# Altium schematic symbol library connectors.SchLib: 32 symbols
Pins are listed as number, name and electrical type; pins without a type are passive.

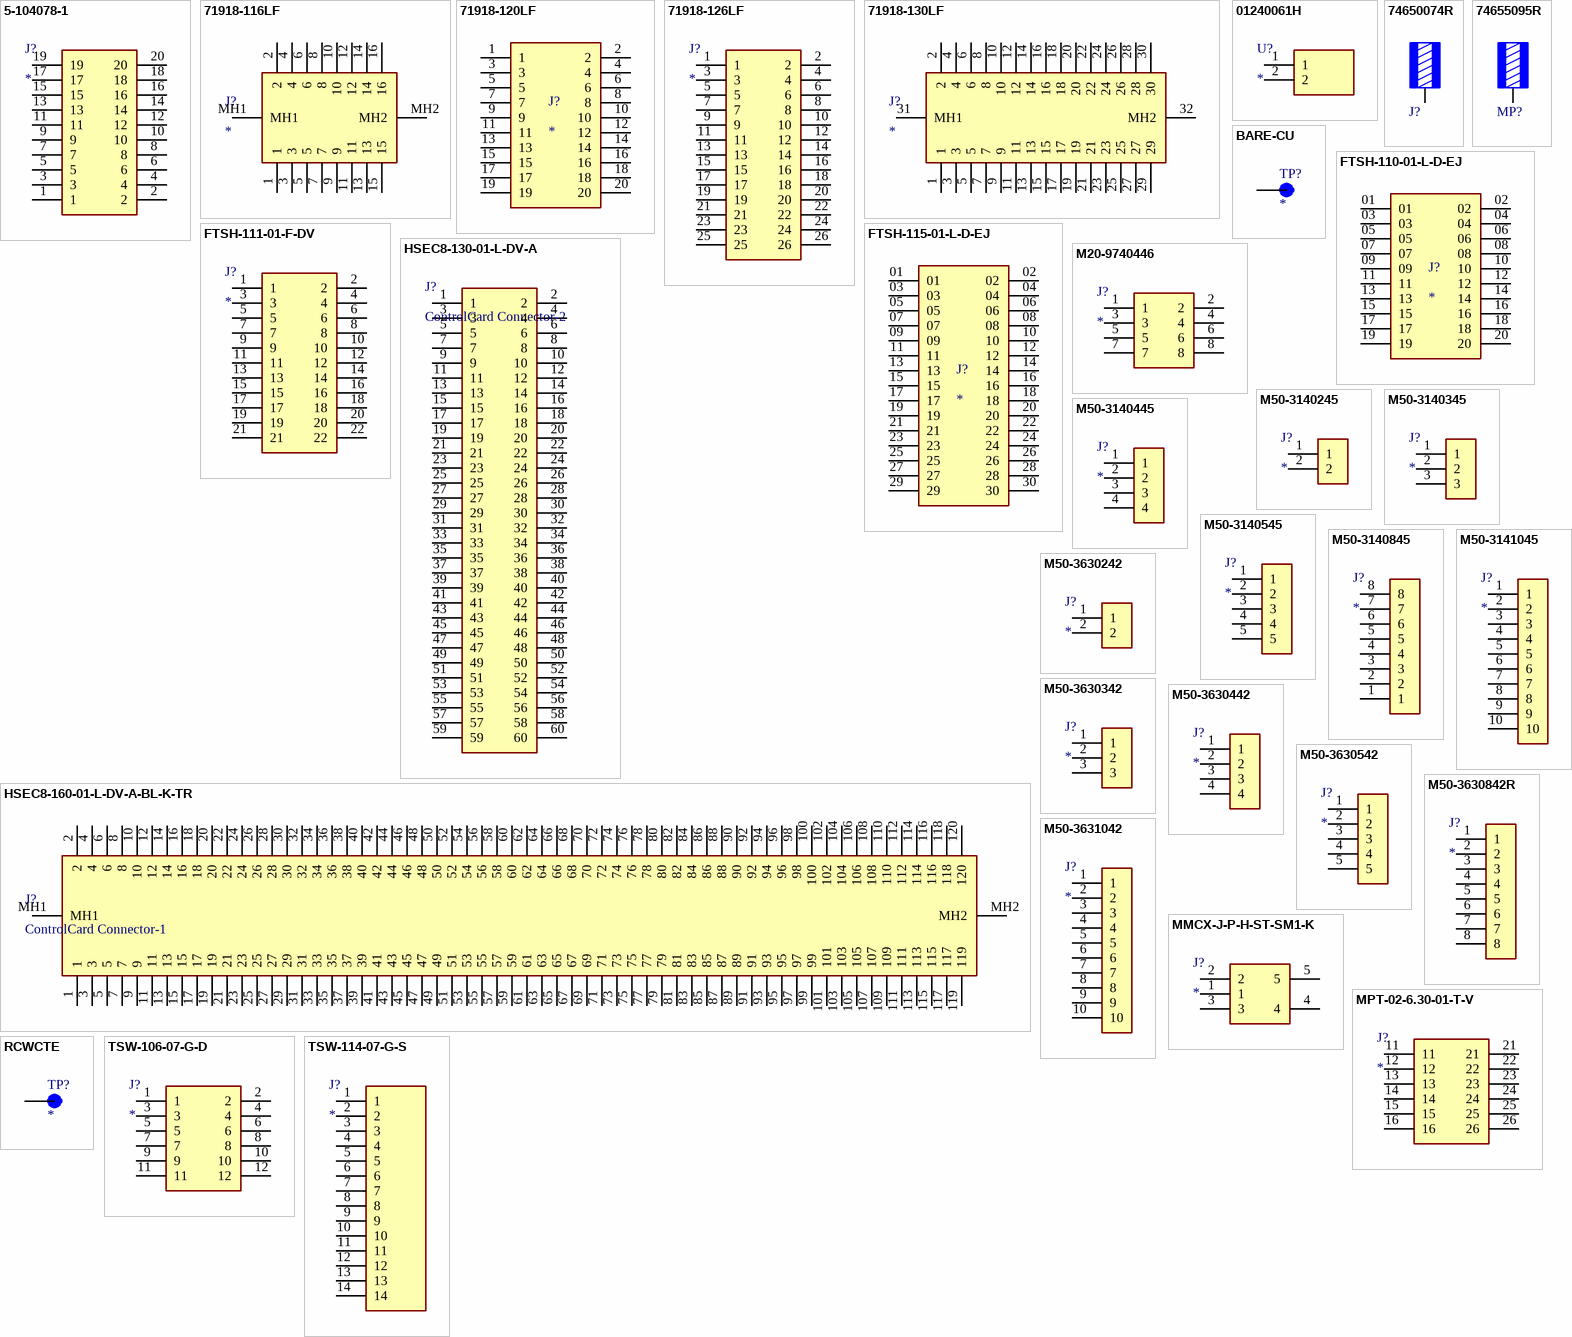
[diagram p0: symbols 5-104078-1 to TSW-114-07-G-S]

## 5-104078-1
designator J?
2x10 RECT 0.05 FOR JTAG-20; Manufacturer_Name: TE Connectivity; Manufacturer_Part_Number: 5-104078-1; Datasheet Link: https://www.te.com/commerce/DocumentDelivery/DDEControllerhttps://www.te.com/commerce/DocumentDelivery/DDEController?Action=showdoc&DocId=Customer+Drawing%7F104078%7FW%7Fpdf%7FEnglish%7FENG_CD_104078_W.pdf%7F5-104078-1?Action=showdoc&DocId=Customer+Drawin; Height: 8.97mm; Mouser Part Number: 571-5-104078-1; Mouser Price/Stock: https://www.mouser.co.uk/ProductDetail/TE-Connectivity/5-104078-1?qs=5TU6wCHKgpbr5ruvfBZGyA%3D%3D; Arrow Part Number: 5-104078-1; Arrow Price/Stock: https://www.arrow.com/en/products/5-104078-1/te-connectivity?utm_currency=USD&region=nac
footprint 51040781
pins: 1, 2, 3, 4, 5, 6, 7, 8, 9, 10, 11, 12, 13, 14, 15, 16, 17, 18, 19, 20

## 71918-116LF
designator J?
CONN HEADER VERT 16POS 2.54MM LATCHLOCK; Manufacturer_Name: Amphenol Communications Solutions; Manufacturer_Part_Number: 71918-116LF; Datasheet Link: https://cdn.amphenol-cs.com/media/wysiwyg/files/drawing/71918.pdf; Height: 17.7mm; Arrow Part Number: 71918-116LF; Arrow Price/Stock: https://www.arrow.com/en/products/71918-116lf/amphenol-fci?utm_currency=USD&region=europe
footprint 71918116LF
pins: 1, 2, 3, 4, 5, 6, 7, 8, 9, 10, 11, 12, 13, 14, 15, 16, MH1, MH2

## 71918-120LF
designator J?
CONN HEADER VERT 20POS 2.54MM LATCHLOCK; MF: Amphenol ICC; MP: 71918-120LF; Package: None; Price: None; Value: *; Availability: Unavailable
footprint AMPHENOL_71918-120LF
pins: 1, 2, 3, 4, 5, 6, 7, 8, 9, 10, 11, 12, 13, 14, 15, 16, 17, 18, 19, 20

## 71918-126LF
designator J?
CONN HEADER VERT 26POS 2.54MM LATCHLOCK; Manufacturer_Name: Amphenol Communications Solutions; Manufacturer_Part_Number: 71918-126LF; Datasheet Link: https://cdn.amphenol-cs.com/media/wysiwyg/files/drawing/71918.pdf; Height: 26.8mm
footprint 71918126LF
pins: 1, 2, 3, 4, 5, 6, 7, 8, 9, 10, 11, 12, 13, 14, 15, 16, 17, 18, 19, 20, 21, 22, 23, 24, 25, 26

## 71918-130LF
designator J?
CONN HEADER VERT 30POS 2.54MM LATCHLOCK; Manufacturer_Name: Amphenol Communications Solutions; Manufacturer_Part_Number: 71918-130LF; Datasheet Link: https://cdn.amphenol-cs.com/media/wysiwyg/files/drawing/71918.pdf; Height: 26.8mm; Arrow Part Number: 71918-130LF; Arrow Price/Stock: https://www.arrow.com/en/products/71918-130lf/amphenol-fci?utm_currency=USD&region=nac
footprint 71918130LF
pins: 1, 2, 3, 4, 5, 6, 7, 8, 9, 10, 11, 12, 13, 14, 15, 16, 17, 18, 19, 20, 21, 22, 23, 24, 25, 26, 27, 28, 29, 30, 31 MH1, 32 MH2

## 01240061H
designator U?
FUSE CLIP HOLDER THT 3AG/3AB 40A; Manufacturer_Name: LITTELFUSE; Manufacturer_Part_Number: 01240061H; Datasheet Link: https://www.littelfuse.com/media?resourcetype=datasheets&itemid=281b065a-d81e-4e26-9035-84e73d4bb028&filename=littelfuse-fuse-clip-124-datasheet.pdf; Height: 10.67mm; Mouser Part Number: 576-01240061H; Mouser Price/Stock: https://www.mouser.co.uk/ProductDetail/Littelfuse/01240061H?qs=81r%252BiQLm7BSgqEC6g%252BUS9Q%3D%3D; Arrow Part Number: 01240061H; Arrow Price/Stock: https://www.arrow.com/en/products/01240061h/littelfuse?utm_currency=USD&region=europe
footprint 01240061H
pins: 1, 2

## 74650074R
designator J?  (value not drawn)
TERM REDCUBE M4 THT; Manufacturer Part Number: 74650074R; Manufacturer: Wurth Elektronik; Match Code: WP-THRBU; Rated Current: 50A; Surface: Tin; Thread Length: 2.5mm; ComponentLink1Description: Website Link; ComponentLink1URL: https://www.we-online.com/redexpert/article/74650074R?ad; ComponentLink2Description: Datasheet Link; ComponentLink2URL: https://www.we-online.com/redexpert/spec/74650074R?ad; Category: REDCUBE THR; Mount: Through Hole Reflow; Operating Temperature Max: 150°C; Operating Temperature Min: -55°C; Packaging: Tape and Reel; Length: 7mm; Width: 7mm; Height: 3mm; Material: Brass; Number of Pins: 4; Thread Size: M4
footprint 74650074 (REDCUBE THR with internal thread, M4x2.5mm, through)
pins: 1

## 74655095R
designator MP?, comment M5 x 3.5mm  (value not drawn)
TERM REDCUBE M5 THT; Manufacturer Part Number: 74655095R; Manufacturer: Wurth Elektronik; Match Code: WP-THRBU; Rated Current: 85A; Surface: Tin; ComponentLink1Description: Website Link; ComponentLink1URL: https://www.we-online.com/redexpert/article/74655095R?ad; ComponentLink2Description: Datasheet Link; ComponentLink2URL: https://www.we-online.com/redexpert/spec/74655095R?ad; Category: REDCUBE THR; Mount: Through Hole Reflow; Operating Temperature Max: 150°C; Operating Temperature Min: -55°C; Packaging: Tape and Reel; Length: 10mm; Width: 10mm; Height: 4mm; Material: Brass; Number of Pins: 8; Thread Length: 3.5mm; Thread Size: M5
footprint 74655095 (REDCUBE THR with internal thread, M5x3.5mm, through)
pins: 1

## BARE-CU
designator TP?
BARE CU TEST POINT; MF: KOA Speer; MP: RCWCTE; Check_prices: https://www.snapeda.com/parts/RCWCTE/KOA+Speer/view-part/?ref=eda; SnapEDA_Link: https://www.snapeda.com/parts/RCWCTE/KOA+Speer/view-part/?ref=snap; Digi-Key_Part_Number: 2019-RCWCTETR-ND; Value: *; Purchase-URL: https://pricing.snapeda.com/search/part/RCWCTE/?ref=eda; Package: None
footprint BARE_CU_OCT_2mm
pins: 1 TP

## FTSH-110-01-L-D-EJ
designator J?
CONN HEADER VERT 20POS 1.27MM LATCHLOCK; MP: FTSH-110-01-L-D-EJ; MF: Samtec; Availability: Unavailable; Value: *; Price: None; Package: None
footprint SAMTEC_FTSH-110-01-L-D-EJ
pins: 01, 02, 03, 04, 05, 06, 07, 08, 09, 10, 11, 12, 13, 14, 15, 16, 17, 18, 19, 20

## FTSH-111-01-F-DV
designator J?
CONN HEADER SMD 2x11POS 1.27MM; Manufacturer_Name: SAMTEC; Manufacturer_Part_Number: FTSH-111-01-F-DV; Datasheet Link: https://suddendocs.samtec.com/prints/ftsh-1xx-xx-xxx-dv-xxx-xxx-x-xx-mkt.pdf?_gl=1*1e7216n*_ga*ODgwNjE2ODg0LjE2NDkxNjE4OTQ.*_ga_3KFNZC07WW*MTY3ODA4Njg4Ny45Ni4xLjE2NzgwODcxMjUuNi4wLjA.; Height: 6.1mm; Mouser Part Number: 200-FTSH11101FDV; Mouser Price/Stock: https://www.mouser.co.uk/ProductDetail/Samtec/FTSH-111-01-F-DV?qs=0lQeLiL1qyZO8bh%2FqcJwUQ%3D%3D; Arrow Part Number: FTSH-111-01-F-DV; Arrow Price/Stock: https://www.arrow.com/en/products/ftsh-111-01-f-dv/samtec?region=nac
footprint FTSH11101FDV
pins: 1, 2, 3, 4, 5, 6, 7, 8, 9, 10, 11, 12, 13, 14, 15, 16, 17, 18, 19, 20, 21, 22

## FTSH-115-01-L-D-EJ
designator J?
CONN HEADER VERT 30POS 1.27MM LATCHLOCK; MF: {'manufacturer': u'Samtec Inc.'}; MP: FTSH-115-01-L-D-EJ; Package: None; Price: None; Value: *; Availability: Unavailable
footprint SAMTEC_FTSH-115-01-L-D-EJ
pins: 01, 02, 03, 04, 05, 06, 07, 08, 09, 10, 11, 12, 13, 14, 15, 16, 17, 18, 19, 20, 21, 22, 23, 24, 25, 26, 27, 28, 29, 30

## HSEC8-130-01-L-DV-A
designator J?, comment ControlCard Connector-2
CONN EDGE DUAL FML 60POS 0.031; Manufacturer_Name: SAMTEC; Manufacturer_Part_Number: HSEC8-130-01-L-DV-A; Datasheet Link: https://suddendocs.samtec.com/prints/hsec8-1xxx-xx-xx-dv-x-xx-x-xx-mkt.pdf?_gl=1*nu2iep*_ga*OTExNDMzNjcuMTcxNzEyNzc4OQ..*_ga_3KFNZC07WW*MTcxNzIyNDUwOS4zLjEuMTcxNzIyNDU5OS40Mi4wLjA.; Height: 8.13mm; Mouser Part Number: 200-HSEC813001LDVA; Mouser Price/Stock: https://www.mouser.co.uk/ProductDetail/Samtec/HSEC8-130-01-L-DV-A?qs=PB6%2FjmICvI3aphKY%252B4QbpQ%3D%3D; Arrow Part Number: HSEC8-130-01-L-DV-A; Arrow Price/Stock: https://www.arrow.com/en/products/hsec8-130-01-l-dv-a/samtec?utm_currency=USD&region=nac
footprint HSEC813001LDVA
pins: 1, 2, 3, 4, 5, 6, 7, 8, 9, 10, 11, 12, 13, 14, 15, 16, 17, 18, 19, 20, 21, 22, 23, 24, 25, 26, 27, 28, 29, 30, 31, 32, 33, 34, 35, 36, 37, 38, 39, 40, 41, 42, 43, 44, 45, 46, 47, 48, 49, 50, 51, 52, 53, 54, 55, 56, 57, 58, 59, 60

## HSEC8-160-01-L-DV-A-BL-K-TR
designator J?, comment ControlCard Connector-1
CONN EDGE DUAL FML 120POS 0.031; Manufacturer_Name: SAMTEC; Manufacturer_Part_Number: HSEC8-160-01-L-DV-A-BL-K-TR; Datasheet Link: https://suddendocs.samtec.com/prints/hsec8-1xxx-xx-xx-dv-x-xx-x-xx-mkt.pdf; Height: 8.13mm; Mouser Part Number: 200-C816001LDVABLKTR; Mouser Price/Stock: https://www.mouser.co.uk/ProductDetail/Samtec/HSEC8-160-01-L-DV-A-BL-K-TR?qs=PB6%2FjmICvI3KOGQIEkyHjQ%3D%3D
footprint HSEC816001LDVABLKTR
pins: 1, 2, 3, 4, 5, 6, 7, 8, 9, 10, 11, 12, 13, 14, 15, 16, 17, 18, 19, 20, 21, 22, 23, 24, 25, 26, 27, 28, 29, 30, 31, 32, 33, 34, 35, 36, 37, 38, 39, 40, 41, 42, 43, 44, 45, 46, 47, 48, 49, 50, 51, 52, 53, 54, 55, 56, 57, 58, 59, 60, 61, 62, 63, 64, 65, 66, 67, 68, 69, 70, 71, 72, 73, 74, 75, 76, 77, 78, 79, 80, 81, 82, 83, 84, 85, 86, 87, 88, 89, 90, 91, 92, 93, 94, 95, 96, 97, 98, 99, 100, 101, 102, 103, 104, 105, 106, 107, 108, 109, 110, 111, 112, 113, 114, 115, 116, 117, 118, 119, 120, MH1, MH2

## M20-9740446
designator J?
CONN HEADER R/A THT 8POS 2.54MM; Manufacturer_Name: Harwin; Manufacturer_Part_Number: M20-9740446; Datasheet Link: https://content.harwin.com/m/e93fbae77e92481e/original/DRG-00453-Technical-Drawing-Datasheet-M20-974-pdf.pdf; Height: 5.08mm; Mouser Part Number: 855-M20-9740446; Mouser Price/Stock: https://www.mouser.co.uk/ProductDetail/Harwin/M20-9740446?qs=ulE8k0yEMYb%2FRXT%252BIaWKSQ%3D%3D
footprint M20-97404XX
pins: 1, 2, 3, 4, 5, 6, 7, 8

## M50-3140245
designator J?
CONN RCPT 2POS 1.27MM SMD; Manufacturer_Name: Harwin; Manufacturer_Part_Number: M50-3140245; Datasheet Link: https://componentsearchengine.com/Datasheets/1/M50-3140245.pdf; Height: 3.6mm; Mouser Part Number: 855-M50-3140245; Mouser Price/Stock: https://www.mouser.co.uk/ProductDetail/Harwin/M50-3140245?qs=%252BdQmOuGyFcEdctCQD%252BcFMQ%3D%3D
footprint M503140245
pins: 1, 2

## M50-3140345
designator J?
CONN RCPT 3POS 1.27MM SMD; Manufacturer_Name: Harwin; Manufacturer_Part_Number: M50-3140345; Datasheet Link: https://cdn.harwin.com/pdfs/M50-314.pdf; Height: 3.55mm; Mouser Part Number: 855-M50-3140345; Mouser Price/Stock: https://www.mouser.co.uk/ProductDetail/Harwin/M50-3140345?qs=%252BdQmOuGyFcGEXufOLF1LLg%3D%3D
footprint M503140345
pins: 1, 2, 3

## M50-3140445
designator J?
CONN RCPT 4POS 1.27MM SMD; Manufacturer_Name: Harwin; Manufacturer_Part_Number: M50-3140445; Datasheet Link: https://cdn.harwin.com/pdfs/M50-314.pdf; Height: 3.85mm; Mouser Part Number: 855-M50-3140445; Mouser Price/Stock: https://www.mouser.co.uk/ProductDetail/Harwin/M50-3140445?qs=%252BdQmOuGyFcEaFwvke74u0A%3D%3D
footprint M503140445
pins: 1, 2, 3, 4

## M50-3140545
designator J?
CONN RCPT 5POS 1.27MM SMD; Manufacturer_Name: Harwin; Manufacturer_Part_Number: M50-3140545; Datasheet Link: https://cdn.harwin.com/pdfs/M50-314.pdf; Height: 3.85mm; Mouser Part Number: 855-M50-3140545; Mouser Price/Stock: https://www.mouser.co.uk/ProductDetail/Harwin/M50-3140545?qs=%252BdQmOuGyFcFuucSHxtzcCQ%3D%3D
footprint M503140545
pins: 1, 2, 3, 4, 5

## M50-3140845
designator J?
CONN RCPT 8POS 1.27MM SMD; Manufacturer_Name: Harwin; Manufacturer_Part_Number: M50-3140845; Datasheet Link: https://cdn.harwin.com/pdfs/M50-314.pdf; Height: 3.85mm; Mouser Part Number: 855-M50-3140845; Mouser Price/Stock: https://www.mouser.co.uk/ProductDetail/Harwin/M50-3140845?qs=%252BdQmOuGyFcHQiIR7iiboCA%3D%3D
footprint M503140845
pins: 1, 2, 3, 4, 5, 6, 7, 8

## M50-3141045
designator J?
CONN RCPT 10POS 1.27MM SMD; Manufacturer_Name: Harwin; Manufacturer_Part_Number: M50-3141045; Datasheet Link: https://cdn.harwin.com/pdfs/M50-314.pdf; Height: 3.85mm; Mouser Part Number: 855-M50-3141045; Mouser Price/Stock: https://www.mouser.co.uk/ProductDetail/Harwin/M50-3141045?qs=%252BdQmOuGyFcGapsL%2FyAUiiQ%3D%3D
footprint M503141045
pins: 1, 2, 3, 4, 5, 6, 7, 8, 9, 10

## M50-3630242
designator J?
CONN HEADER SMD 2POS 1.27MM; Manufacturer_Name: Harwin; Manufacturer_Part_Number: M50-3630242; Datasheet Link: https://cdn.harwin.com/pdfs/M50-363.pdf; Height: 4.95mm; Mouser Part Number: 855-M50-3630242; Mouser Price/Stock: https://www.mouser.co.uk/ProductDetail/Harwin/M50-3630242?qs=%252BdQmOuGyFcGm5KVXDM4yoQ%3D%3D
footprint M503630242
pins: 1, 2

## M50-3630342
designator J?
CONN HEADER SMD 3POS 1.27MM; Manufacturer_Name: Harwin; Manufacturer_Part_Number: M50-3630342; Datasheet Link: https://cdn.harwin.com/pdfs/M50-363.pdf; Mouser Part Number: 855-M50-3630342; Mouser Price/Stock: https://www.mouser.co.uk/ProductDetail/Harwin/M50-3630342?qs=%252BdQmOuGyFcG0d8QKr5S%252BEA%3D%3D
footprint HUSRSP3W42P127_381X210X430P
pins: 1, 2, 3

## M50-3630442
designator J?
CONN HEADER SMD 4POS 1.27MM; Manufacturer_Name: Harwin; Manufacturer_Part_Number: M50-3630442; Datasheet Link: https://cdn.harwin.com/pdfs/M50-363.pdf; Height: 4mm; Mouser Part Number: 855-M50-3630442; Mouser Price/Stock: https://www.mouser.co.uk/ProductDetail/Harwin/M50-3630442?qs=%252BdQmOuGyFcE6k2Z86bbY9Q%3D%3D
footprint M503630442
pins: 1, 2, 3, 4

## M50-3630542
designator J?
CONN HEADER SMD 5POS 1.27MM; Manufacturer_Name: Harwin; Manufacturer_Part_Number: M50-3630542; Datasheet Link: https://www.harwin.com/api/download/?document=https://content.harwin.com/m/6cdc14cba4152813/original/DRG-02647-Technical-Drawing-Datasheet-M50-363-pdf.pdf; Height: 4.95mm; Mouser Part Number: 855-M50-3630542; Mouser Price/Stock: https://www.mouser.co.uk/ProductDetail/Harwin/M50-3630542?qs=%252BdQmOuGyFcGTcknJK14WpQ%3D%3D
footprint M503630542
pins: 1, 2, 3, 4, 5

## M50-3630842R
designator J?
CONN HEADER SMD 8POS 1.27MM; Manufacturer_Name: Harwin; Manufacturer_Part_Number: M50-3630842; Datasheet Link: https://cdn.harwin.com/pdfs/M50-363.pdf; Mouser Part Number: 855-M50-3630842; Mouser Price/Stock: https://www.mouser.co.uk/ProductDetail/Harwin/M50-3630842?qs=%252BdQmOuGyFcFqwDSPVZ2BSw%3D%3D
footprint M503630842R
pins: 1, 2, 3, 4, 5, 6, 7, 8

## M50-3631042
designator J?
CONN HEADER SMD 10POS 1.27MM; Manufacturer_Name: Harwin; Manufacturer_Part_Number: M50-3631042; Datasheet Link: https://cdn.harwin.com/pdfs/M50-363.pdf; Height: 4.7mm; Mouser Part Number: 855-M50-3631042; Mouser Price/Stock: https://www.mouser.co.uk/ProductDetail/Harwin/M50-3631042?qs=%252BdQmOuGyFcGLl60dqjvGKA%3D%3D
footprint M503631042
pins: 1, 2, 3, 4, 5, 6, 7, 8, 9, 10

## MMCX-J-P-H-ST-SM1-K
designator J?
CONN MMCX JACK STR 50 OHM SMD; Manufacturer_Name: SAMTEC; Manufacturer_Part_Number: MMCX-J-P-H-ST-SM1-K; Datasheet Link: https://suddendocs.samtec.com/prints/mmcx-j-p-x-st-sm1-x-xx-mkt.pdf?_gl=1*1flhnhy*_ga*NjI3MTY1ODIuMTYwNzc1NTkzMw..*_ga_3KFNZC07WW*MTY2NTEyMzI4MC4yMy4xLjE2NjUxMjMzMDguMzIuMC4w; Height: 5.13mm; Mouser Part Number: 200-MMCX-JPHSTSM1K; Mouser Price/Stock: https://www.mouser.co.uk/ProductDetail/Samtec/MMCX-J-P-H-ST-SM1-K?qs=ahcBuItHZ3zogOqFmEZEAA%3D%3D; Arrow Part Number: MMCX-J-P-H-ST-SM1-K; Arrow Price/Stock: https://www.arrow.com/en/products/mmcx-j-p-h-st-sm1-k/samtec
footprint MMCXJPHSTSM1K
pins: 1, 2, 3, 4, 5

## MPT-02-6.30-01-T-V
designator J?
CONN HDR 2POS 5.00MM PCB SLDR; Manufacturer_Name: SAMTEC; Manufacturer_Part_Number: MPT-02-6.30-01-T-V; Datasheet Link: https://suddendocs.samtec.com/prints/mpt-xx-6.30-xx-x-v-xx-mkt.pdf; Height: 11.51mm; Mouser Part Number: 200-MPT026.3001TV; Mouser Price/Stock: https://www.mouser.co.uk/ProductDetail/Samtec/MPT-02-6.30-01-T-V?qs=92ilVni64gzMvsaouAuqxg%3D%3D; Arrow Part Number: MPT-02-6.30-01-T-V; Arrow Price/Stock: https://www.arrow.com/en/products/mpt-02-6.30-01-t-v/samtec?region=nac
footprint MPT0263001TV
pins: 11, 12, 13, 14, 15, 16, 21, 22, 23, 24, 25, 26

## RCWCTE
designator TP?
TEST POINT 1206; MF: KOA Speer; MP: RCWCTE; Check_prices: https://www.snapeda.com/parts/RCWCTE/KOA+Speer/view-part/?ref=eda; SnapEDA_Link: https://www.snapeda.com/parts/RCWCTE/KOA+Speer/view-part/?ref=snap; Digi-Key_Part_Number: 2019-RCWCTETR-ND; Value: *; Purchase-URL: https://pricing.snapeda.com/search/part/RCWCTE/?ref=eda; Package: None
footprint TP420X150
pins: 1 TP

## TSW-106-07-G-D
designator J?
CONN HEADER VERT 2x6POS 2.54MM; Manufacturer_Name: SAMTEC; Manufacturer_Part_Number: TSW-106-07-G-D; Datasheet Link: https://suddendocs.samtec.com/prints/tsw-xxx-xx-xxx-x-xx-xxx-mkt.pdf?_gl=1*rdaod8*_gcl_aw*R0NMLjE3MzcxMTE4NDAuRUFJYUlRb2JDaE1JM19fXzc4ejhpZ01WMUlwb0NSMzcwQlU1RUFBWUFTQUFFZ0podlBEX0J3RQ..*_gcl_au*NTk5MDQ5OTQ2LjE3MzUwNDA2NzY.*_ga*NDc0MTAxNDgwLjE3MDMxODU2ODU; Height: 8.58mm; Mouser Part Number: 200-TSW10607GD; Mouser Price/Stock: https://www.mouser.co.uk/ProductDetail/Samtec/TSW-106-07-G-D?qs=hzq9O0YpnZugmvcdQ5Ig%2Fw%3D%3D; Arrow Part Number: TSW-106-07-G-D; Arrow Price/Stock: https://www.arrow.com/en/products/tsw-106-07-g-d/samtec?utm_currency=USD&region=europe
footprint TSW10607GD (Footprint not found)
pins: 1, 2, 3, 4, 5, 6, 7, 8, 9, 10, 11, 12

## TSW-114-07-G-S
designator J?
CONN HEADER VERT 14POS 2.54MM; Manufacturer_Name: SAMTEC; Manufacturer_Part_Number: TSW-114-07-G-S; Datasheet Link: http://suddendocs.samtec.com/prints/tsw-xxx-xx-xxx-x-xx-xxx-mkt.pdf; Mouser Part Number: 200-TSW11407GS; Mouser Price/Stock: https://www.mouser.co.uk/ProductDetail/Samtec/TSW-114-07-G-S?qs=rU5fayqh%252BE2%2Ft1%252BlziCVkQ%3D%3D; Arrow Part Number: TSW-114-07-G-S; Arrow Price/Stock: https://www.arrow.com/en/products/tsw-114-07-g-s/samtec?utm_currency=USD&region=nac
footprint TSW-114-XX-YY-S
pins: 1, 2, 3, 4, 5, 6, 7, 8, 9, 10, 11, 12, 13, 14